# EAGLE library part LMH6555 (library Schuyler)
LMH6555 is a low distortion 1.2 GHz differential driver. It can be configured for single sided input. Verified=false.
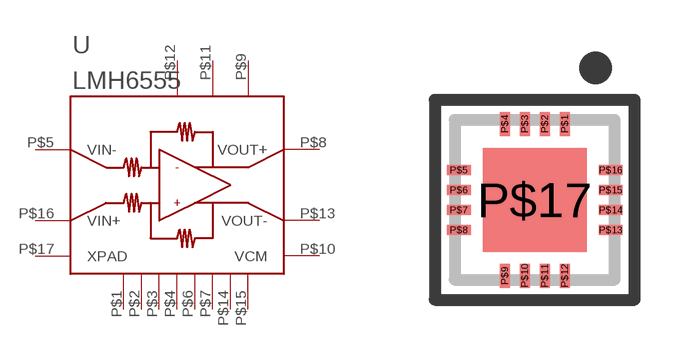
[diagram p12: symbol with the pads of 16WQFN; footprint 16WQFN]

Designator prefix -

## LMH6555 (MANPARTNUMBER: LMH6555SQ/NOPB; MANUFACTURER: Texas Instruments; PARTNUMBER: LMH6555SQ/NOPBCT-ND; SUPPLIER: DIGIKEY; VERIFIED: FALSE)  [16WQFN]
P$1  GND  pwr
P$2  GND  pwr
P$3  GND  pwr
P$4  GND  pwr
P$5  VIN-  in
P$6  GND  pwr
P$7  GND  pwr
P$8  VOUT+  out
P$9  VCC  pwr
P$10  VCM  in
P$11  VCC  pwr
P$12  VCC  pwr
P$13  VOUT-  out
P$14  GND  pwr
P$15  GND  pwr
P$16  VIN+  in
P$17  XPAD  pwr

## Footprint 16WQFN (pad centres in mm)
smd 0.25 x 0.6: P$1 0.75,1.9; P$2 0.25,1.9; P$3 -0.25,1.9; P$4 -0.75,1.9; P$9 -0.75,-1.9; P$10 -0.25,-1.9; P$11 0.25,-1.9; P$12 0.75,-1.9
smd 0.6 x 0.25: P$5 -1.9,0.75; P$6 -1.9,0.25; P$7 -1.9,-0.25; P$8 -1.9,-0.75; P$13 1.9,-0.75; P$14 1.9,-0.25; P$15 1.9,0.25; P$16 1.9,0.75
smd 2.6 x 2.6: P$17 0,0